# EAGLE library part LM4921 (library Audio-Power-amlifier V.2.0)
LM4921 Low Voltage I2S 16-Bit Stereo DAC with Stereo Headphone Power Amplifiers and Volume Control
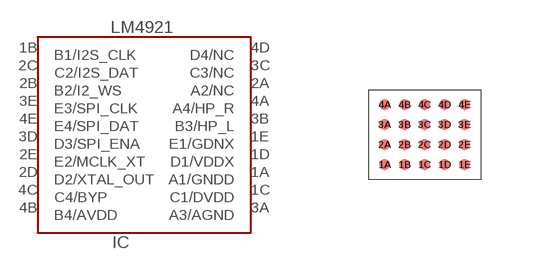
[diagram p198: symbol with the pads of BGA20-TLA20; footprint BGA20-TLA20]

Designator prefix IC

## LM4921  [BGA20-TLA20]
1A  A1/GNDD  pwr
1B  B1/I2S_CLK
1C  C1/DVDD  pwr
1D  D1/VDDX  pwr
1E  E1/GDNX  pwr
2A  A2/NC  nc
2B  B2/I2_WS
2C  C2/I2S_DAT  in
2D  D2/XTAL_OUT  out
2E  E2/MCLK_XT  in
3A  A3/AGND  pwr
3B  B3/HP_L  out
3C  C3/NC  nc
3D  D3/SPI_ENA  in
3E  E3/SPI_CLK  in
4A  A4/HP_R  out
4B  B4/AVDD  pwr
4C  C4/BYP
4D  D4/NC  nc
4E  E4/SPI_DAT  in

## Footprint BGA20-TLA20 (pad centres in mm)
DSBGA20-TLA20_ 2.792x2.258 BODY. www.ti.com/audio
smd 0.275 x 0.275: 1A -1,-0.75; 1B -0.5,-0.75; 1C 0,-0.75; 1D 0.5,-0.75; 1E 1,-0.75; 2A -1,-0.25; 2B -0.5,-0.25; 2C 0,-0.25; 2D 0.5,-0.25; 2E 1,-0.25; 3A -1,0.25; 3B -0.5,0.25; 3C 0,0.25; 3D 0.5,0.25; 3E 1,0.25; 4A -1,0.75; 4B -0.5,0.75; 4C 0,0.75; 4D 0.5,0.75; 4E 1,0.75